# EAGLE library part ICE5LP4K-SWG36 (library ICE5LP4K-SWG36)
iCE5LP4K-SWG36
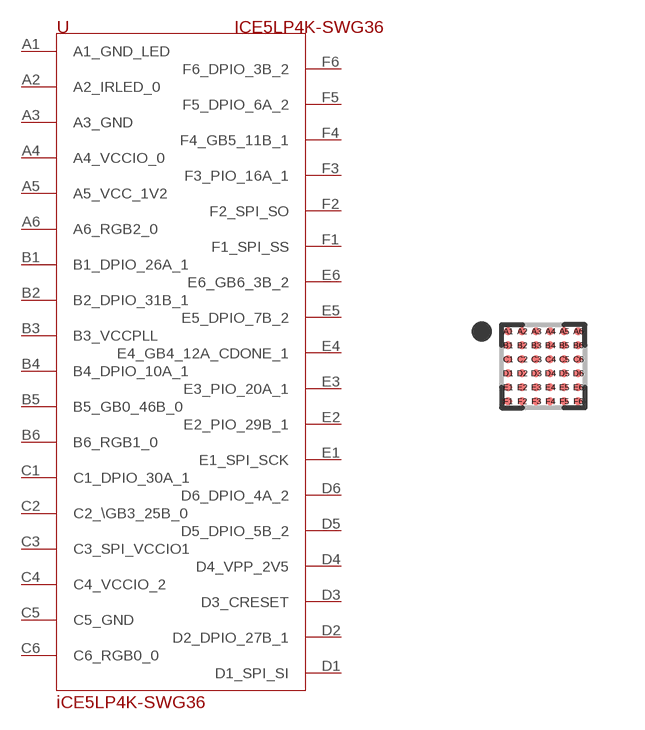
[diagram p0: symbol with the pads of WLCSP36; footprint WLCSP36]

Designator prefix -

## ICE5LP4K-SWG36  [WLCSP36]
A1  A1_GND_LED
A2  A2_IRLED_0
A3  A3_GND
A4  A4_VCCIO_0
A5  A5_VCC_1V2
A6  A6_RGB2_0
B1  B1_DPIO_26A_1
B2  B2_DPIO_31B_1
B3  B3_VCCPLL
B4  B4_DPIO_10A_1
B5  B5_GB0_46B_0
B6  B6_RGB1_0
C1  C1_DPIO_30A_1
C2  C2_\GB3_25B_0
C3  C3_SPI_VCCIO1
C4  C4_VCCIO_2
C5  C5_GND
C6  C6_RGB0_0
D1  D1_SPI_SI
D2  D2_DPIO_27B_1
D3  D3_CRESET
D4  D4_VPP_2V5
D5  D5_DPIO_5B_2
D6  D6_DPIO_4A_2
E1  E1_SPI_SCK
E2  E2_PIO_29B_1
E3  E3_PIO_20A_1
E4  E4_GB4_12A_CDONE_1
E5  E5_DPIO_7B_2
E6  E6_GB6_3B_2
F1  F1_SPI_SS
F2  F2_SPI_SO
F3  F3_PIO_16A_1
F4  F4_GB5_11B_1
F5  F5_DPIO_6A_2
F6  F6_DPIO_3B_2

## Footprint WLCSP36 (pad centres in mm)
36-BGA, collapsing, 0.35 mm pitch, 2.08 X 2.08 X 0.49 mm body 36-pin collapsing BGA package with 0.35 mm col pitch and 0.35 mm row pitch with body size 2.08 X 2.08 X 0.49 mm
smd 0.2 x 0.2: A1 -0.875,0.875; A2 -0.525,0.875; A3 -0.175,0.875; A4 0.175,0.875; A5 0.525,0.875; A6 0.875,0.875; B1 -0.875,0.525; B2 -0.525,0.525; B3 -0.175,0.525; B4 0.175,0.525; B5 0.525,0.525; B6 0.875,0.525; C1 -0.875,0.175; C2 -0.525,0.175; C3 -0.175,0.175; C4 0.175,0.175; C5 0.525,0.175; C6 0.875,0.175; D1 -0.875,-0.175; D2 -0.525,-0.175; D3 -0.175,-0.175; D4 0.175,-0.175; D5 0.525,-0.175; D6 0.875,-0.175; E1 -0.875,-0.525; E2 -0.525,-0.525; E3 -0.175,-0.525; E4 0.175,-0.525; E5 0.525,-0.525; E6 0.875,-0.525; F1 -0.875,-0.875; F2 -0.525,-0.875; F3 -0.175,-0.875; F4 0.175,-0.875; F5 0.525,-0.875; F6 0.875,-0.875